# EAGLE library part TEA2025 (library Miszczo)
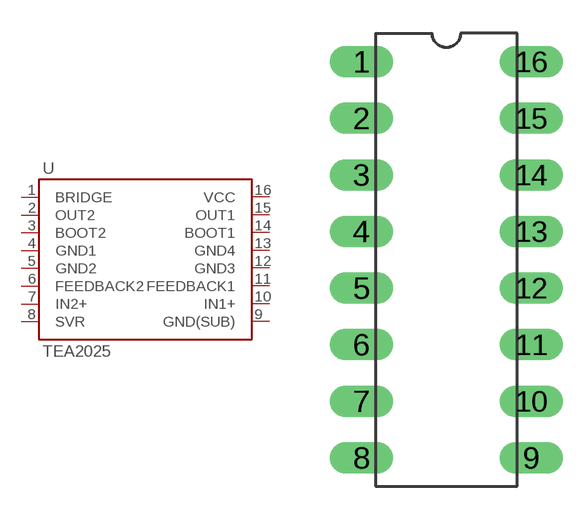
[diagram p4: symbol with the pads of DIL16; footprint DIL16]

Designator prefix U

## TEA2025  [DIL16]
1  BRIDGE
2  OUT2
3  BOOT2
4  GND1
5  GND2
6  FEEDBACK2
7  IN2+
8  SVR
9  GND(SUB)
10  IN1+
11  FEEDBACK1
12  GND3
13  GND4
14  BOOT1
15  OUT1
16  VCC

## Footprint DIL16 (pad centres in mm)
drill 0.8 pad 1.422 long: 1 -3.81,8.89; 2 -3.81,6.35; 3 -3.81,3.81; 4 -3.81,1.27; 5 -3.81,-1.27; 6 -3.81,-3.81; 7 -3.81,-6.35; 8 -3.81,-8.89; 9 3.81,-8.89; 10 3.81,-6.35; 11 3.81,-3.81; 12 3.81,-1.27; 13 3.81,1.27; 14 3.81,3.81; 15 3.81,6.35; 16 3.81,8.89